# EAGLE library part FLAT-FLEX-CONNECTOR-RA-11POS (library FlashPCB_Connectors)
FLAT-FLEX-CONNECTOR-RA-11POS - Flat Flex Connector 11 position Right Angle Technical Specifications: Number of Positions: 11 Contact: Top or Bottom Mount: Right Angle
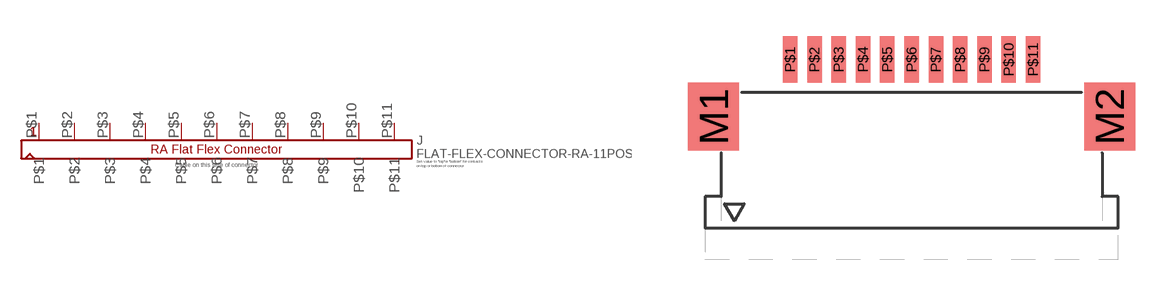
[diagram p109: symbol with the pads of FLAT-FLEX-CONNECTOR-MOLEX-522XX-RA-11POS; footprint FLAT-FLEX-CONNECTOR-MOLEX-522XX-RA-11POS]

Designator prefix J

## FLAT-FLEX-CONNECTOR-RA-11POS1MM-PITCH  [FLAT-FLEX-CONNECTOR-MOLEX-522XX-RA-11POS]
P$1  P$1
P$2  P$2
P$3  P$3
P$4  P$4
P$5  P$5
P$6  P$6
P$7  P$7
P$8  P$8
P$9  P$9
P$10  P$10
P$11  P$11

## Footprint FLAT-FLEX-CONNECTOR-MOLEX-522XX-RA-11POS (pad centres in mm)
smd 2.1 x 2.8: M1 -8.15,-1.4; M2 8.15,-1.4
smd 0.6 x 1.9: P$1 -5,0.95; P$2 -4,0.95; P$3 -3,0.95; P$4 -2,0.95; P$5 -1,0.95; P$6 0,0.95; P$7 1,0.95; P$8 2,0.95; P$9 3,0.95; P$10 4,0.95; P$11 5,0.95